# Altium footprint library NetTie.PcbLib: 1 footprints
Each footprint in its own frame and in the unit in brackets; x right, y up, seen from the top. Pads: shape width x height; smd on the part's side, far side on the other; paste and mask are expansions set on the pad; w line width, h text height; cw(c..) or ccw(c..) is an arc to the next point about the centre after c.
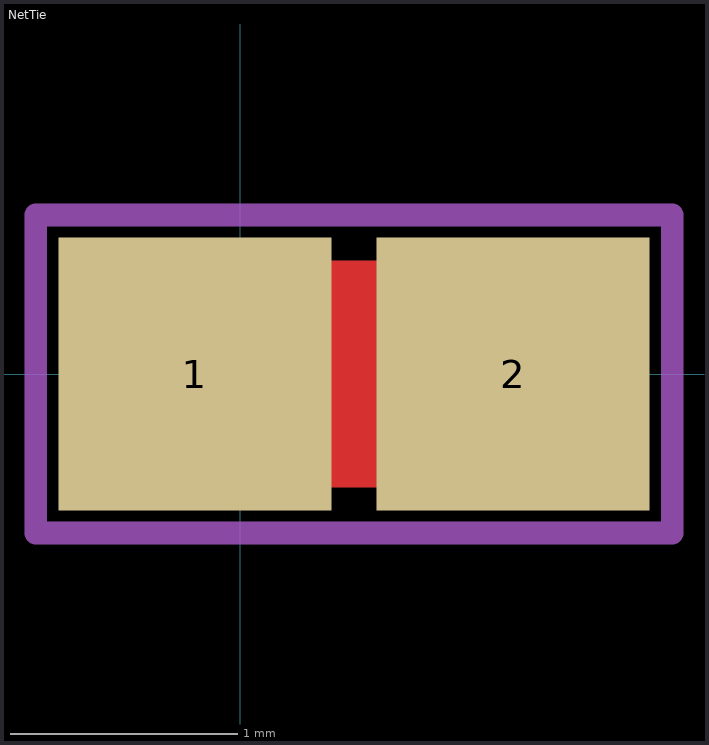
[diagram p0: the footprint, top view; thin cyan lines are the x and y axes]

## NetTie [mm] "Net Tie"
pads (2):
  rect 1.2x1.2 smd: 1(-0.2,0) 2(1.2,0)
Top Layer:
  lines w1: -0.2,0 1.2,0
Mechanical 15:
  lines w0.1: -0.9,-0.7 -0.9,0.7 1.9,0.7 1.9,-0.7 -0.9,-0.7